# EAGLE library part LINREG-TPS7250 (library jt_parts)
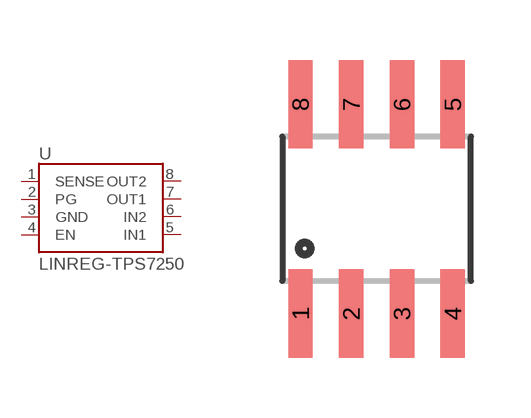
[diagram p2: symbol with the pads of SOIC-8; footprint SOIC-8]

Designator prefix -

## LINREG-TPS7250  [SOIC-8]
1  SENSE
2  PG
3  GND
4  EN
5  IN1
6  IN2
7  OUT1
8  OUT2

## Footprint SOIC-8 (pad centres in mm)
smd 0.61 x 2.21: 1 -1.905,-2.616; 2 -0.635,-2.616; 3 0.635,-2.616; 4 1.905,-2.616; 5 1.905,2.616; 6 0.635,2.616; 7 -0.635,2.616; 8 -1.905,2.616